# Altium schematic symbol library ERA3AEB1913V.SchLib: 1 symbol
Pins are listed as number, name and electrical type; pins without a type are passive.

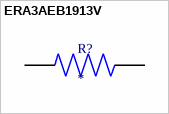
[diagram p0: symbol ERA3AEB1913V]

## ERA3AEB1913V
designator R?
MF: {'manufacturer': u'Panasonic'}; MP: ERA3AEB1913V; Package: None; Price: None; Value: *; Availability: Unavailable
footprint RES_ERA3AEB1913V
pins: 1, 2